# EAGLE library part ATARI-POKEY (library TF_Atari)
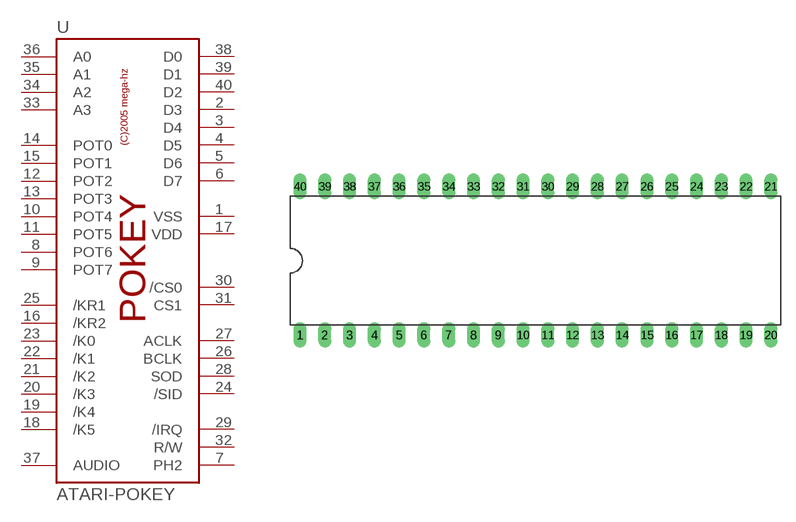
[diagram p3: symbol with the pads of DIL40; footprint DIL40]

Designator prefix -

## ATARI-POKEY  [DIL40]
1  VSS  sup
2  D3
3  D4
4  D5
5  D6
6  D7
7  PH2
8  POT6
9  POT7
10  POT4
11  POT5
12  POT2
13  POT3
14  POT0
15  POT1
16  /KR2
17  VDD  pwr
18  /K5
19  /K4
20  /K3
21  /K2
22  /K1
23  /K0
24  /SID
25  /KR1
26  BCLK
27  ACLK
28  SOD
29  /IRQ
30  /CS0
31  CS1
32  R/W
33  A3
34  A2
35  A1
36  A0
37  AUDIO
38  D0
39  D1
40  D2

## Footprint DIL40 (pad centres in mm)
drill 0.813 long: 1 -24.13,-7.62; 2 -21.59,-7.62; 3 -19.05,-7.62; 4 -16.51,-7.62; 5 -13.97,-7.62; 6 -11.43,-7.62; 7 -8.89,-7.62; 8 -6.35,-7.62; 9 -3.81,-7.62; 10 -1.27,-7.62; 11 1.27,-7.62; 12 3.81,-7.62; 13 6.35,-7.62; 14 8.89,-7.62; 15 11.43,-7.62; 16 13.97,-7.62; 17 16.51,-7.62; 18 19.05,-7.62; 19 21.59,-7.62; 20 24.13,-7.62; 21 24.13,7.62; 22 21.59,7.62; 23 19.05,7.62; 24 16.51,7.62; 25 13.97,7.62; 26 11.43,7.62; 27 8.89,7.62; 28 6.35,7.62; 29 3.81,7.62; 30 1.27,7.62; 31 -1.27,7.62; 32 -3.81,7.62; 33 -6.35,7.62; 34 -8.89,7.62; 35 -11.43,7.62; 36 -13.97,7.62; 37 -16.51,7.62; 38 -19.05,7.62; 39 -21.59,7.62; 40 -24.13,7.62